# Altium integrated library Maxim Sensors.IntLib: 1171 symbols (part 10 of 61)
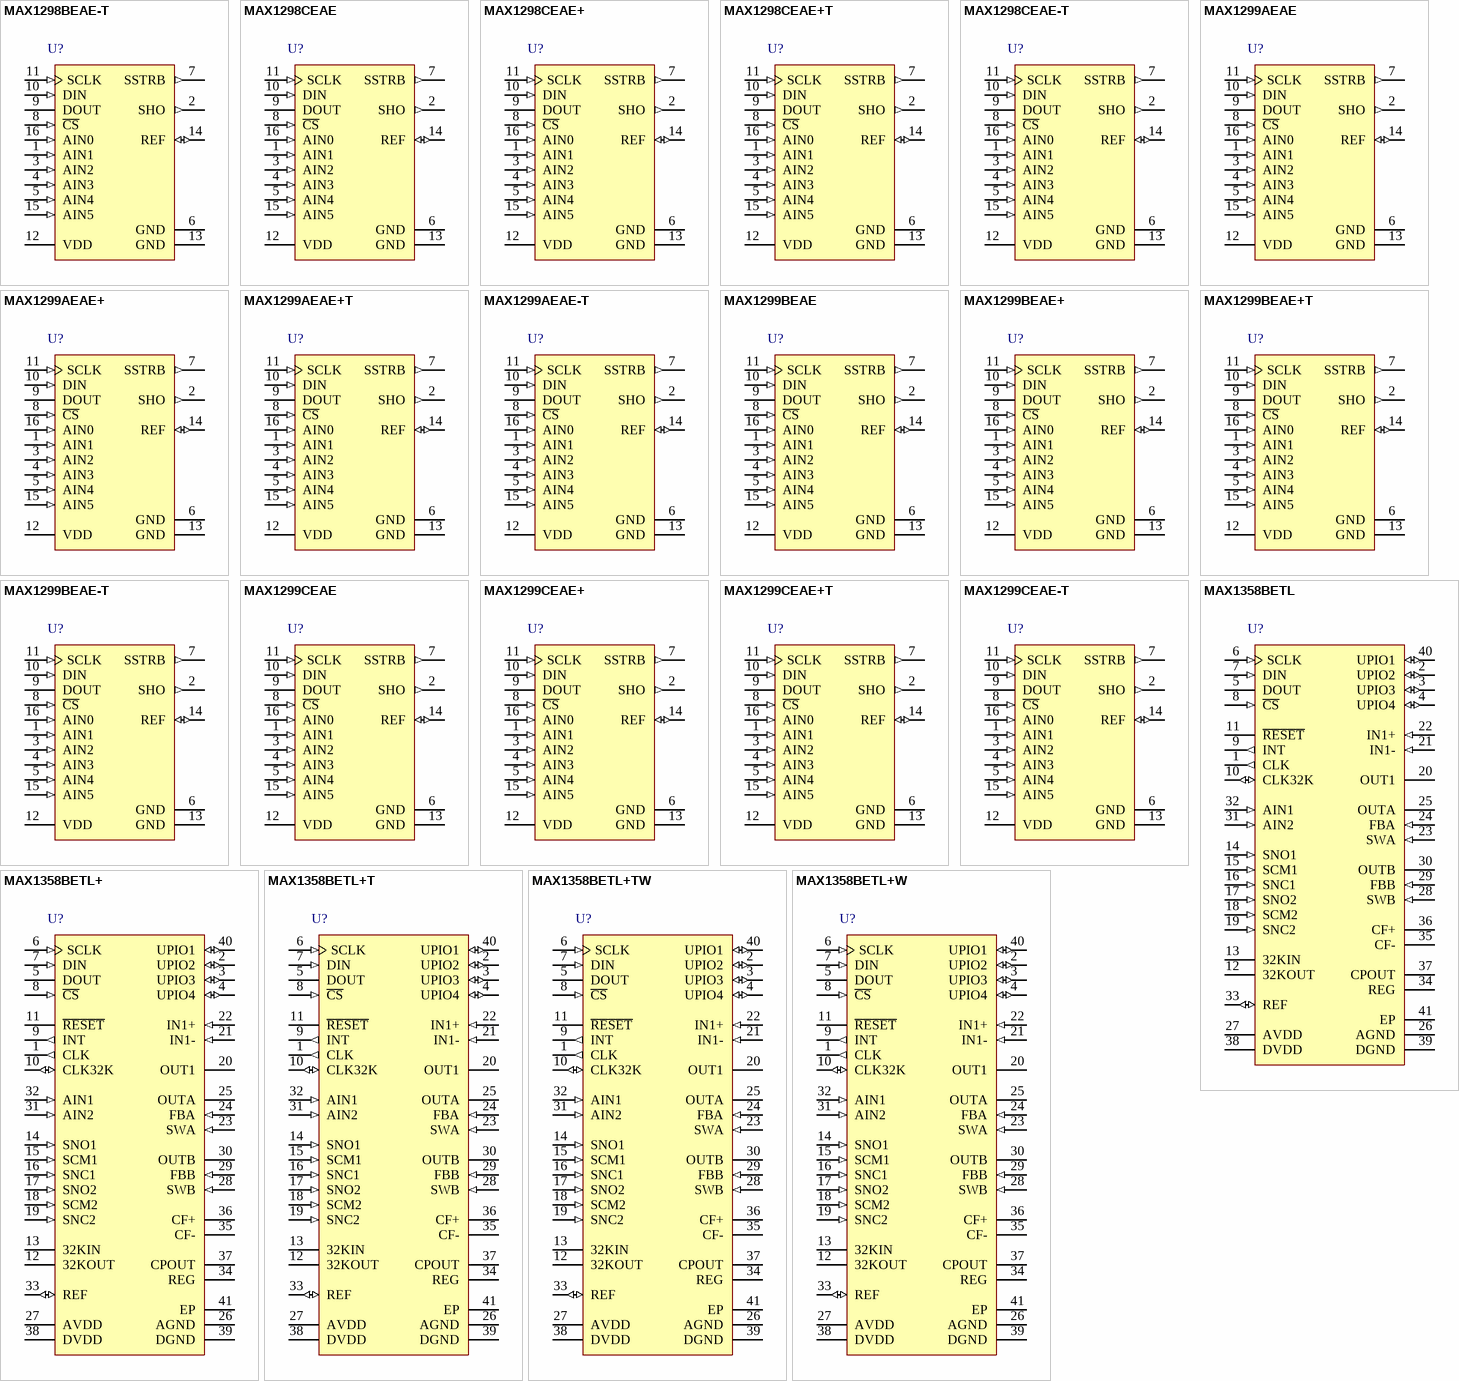
[diagram p42: symbols MAX1298BEAE-T to MAX1358BETL+W]

## MAX1299CEAE+
designator U?
Serial-Output Temperature Sensor with Five-Channel ADC, 12 Bits Temperature Resolution, -40 to 85 degC, 16-Pin SOP (A16+3), Pb-Free; Generic Part Number: MAX1299C; PartNumber: MAX1299CEAE+; Interface: 3-Wire/SPI; Parasite Pwr.: No; DatasheetVersion: Rev. 1; PackageVersion: Rev. C, 02/2010; PackageReference: A16+3; PackageDescription: 16-Pin Shrink Small-Outline Package, Body 5.29 x 6.2 mm, Pitch 0.65 mm; Supplier 1: Digi-Key; Supplier Part Number 1: MAX1299CEAE+-ND; Supplier 2: Mouser; Supplier Part Number 2: 700-MAX1299CEAE; Mounting Technology: Surface Mount; Code_JEDEC: MO-150; ComponentLink1Description: Manufacturer URL; ComponentLink1URL: http://www.maximintegrated.com/; ComponentLink2Description: Datasheet; ComponentLink2URL: http://datasheets.maximintegrated.com/en/ds/MAX1298-MAX1299C.pdf; ComponentLink3Description: Package Specification; ComponentLink3URL: http://pdfserv.maximintegrated.com/package_dwgs/21-0056.PDF
footprint MAXM-A16+3_N (SOP, 16-Leads, Body 6.2x5.29mm, Pitch 0.65mm, IPC Medium Density)
footprint MAXM-A16+3_L (SOP, 16-Leads, Body 6.2x5.29mm, Pitch 0.65mm, IPC High Density)
footprint MAXM-A16+3_M (SOP, 16-Leads, Body 6.2x5.29mm, Pitch 0.65mm, IPC Low Density)
pins: 1 AIN1 (in) "Analog Input 1. Negative differential input relative to AIN0 or positive differential input relative to AIN5 (Table 5). Connect to the cathode of external diode 1 for remote temperature sensing", 2 SHO (out) "Shield Output. Used to suppress leakage currents at the anodes of remote temperature sensors (see Remote Diode Shielding). May also be connected to the shield of twisted-pair input cables used for remote temperature (See Datasheet)", 3 AIN2 (in) "Analog Input 2. Positive differential input relative to AIN3 or positive differential input relative to AIN5 (Table 5). Connect to the anode of external diode 2 for remote temperature sensing.", 4 AIN3 (in) "Analog Input 3. Negative differential input relative to AIN2 or positive differential input relative to AIN5 (Table 5). Connect to the cathode of external diode 2 for remote temperature sensing.", 5 AIN4 (in) "Analog input 4. Positive differential input relative to AIN5 (Table 5).", 6 GND (power) "Ground. Connect to pin 13.", 7 SSTRB (out) "Serial Strobe Output. SSTRB goes low at the beginning of an A/D conversion, and it goes high when the conversion is finished.", 8 ~{CS} (in) "Active-Low Chip Select. Data will not be clocked into DIN unless C\S\ is low. When C\S\ is high, DOUT is at high impedance.", 9 DOUT (hiz) "Serial Data Output. DOUT transitions on the falling edge of SCLK.", 10 DIN (in) "Serial Data Input. DIN latches data on the rising edge of SCLK. 11 SCLK Serial Clock Input. Clocks data in and out of the serial interface.", 11 SCLK (in) "Serial Clock Input. Clocks data in and out of the serial interface.", 12 VDD (power) "Positive Supply Voltage. Bypass with a 0.1uF capacitor to GND (pin 13).", 13 GND (power) "Ground (star ground)", 14 REF (io) "Reference-Buffer Output/ADC Reference Input. Reference voltage for A/D conversion. Bypass to GND (pin 13) with a 0.1uF capacitor. Select reference mode by writing to configuration byte (Table 2).", 15 AIN5 (in) "Analog Input 5. Negative differential input relative to AIN0-AIN4 (Table 5).", 16 AIN0 (in) "Analog Input 0. Positive differential input relative to AIN1 or positive differential input relative to AIN5 (Table 5). Connect to the anode of external diode 1 for remote temperature sensing."

## MAX1299CEAE+T
designator U?
Serial-Output Temperature Sensor with Five-Channel ADC, 12 Bits Temperature Resolution, -40 to 85 degC, 16-Pin SOP (A16+3), Pb-Free, Tape and Reel; Generic Part Number: MAX1299C; PartNumber: MAX1299CEAE+T; Interface: 3-Wire/SPI; Parasite Pwr.: No; DatasheetVersion: Rev. 1; PackageVersion: Rev. C, 02/2010; PackageReference: A16+3; PackageDescription: 16-Pin Shrink Small-Outline Package, Body 5.29 x 6.2 mm, Pitch 0.65 mm; Supplier 1: Digi-Key; Supplier Part Number 1: MAX1299CEAE+T-ND; Supplier 2: Mouser; Supplier Part Number 2: 700-MAX1299CEAET; Packing: Tape and Reel; Mounting Technology: Surface Mount; Code_JEDEC: MO-150; ComponentLink1Description: Manufacturer URL; ComponentLink1URL: http://www.maximintegrated.com/; ComponentLink2Description: Datasheet; ComponentLink2URL: http://datasheets.maximintegrated.com/en/ds/MAX1298-MAX1299C.pdf; ComponentLink3Description: Package Specification; ComponentLink3URL: http://pdfserv.maximintegrated.com/package_dwgs/21-0056.PDF
footprint MAXM-A16+3_N (SOP, 16-Leads, Body 6.2x5.29mm, Pitch 0.65mm, IPC Medium Density)
footprint MAXM-A16+3_L (SOP, 16-Leads, Body 6.2x5.29mm, Pitch 0.65mm, IPC High Density)
footprint MAXM-A16+3_M (SOP, 16-Leads, Body 6.2x5.29mm, Pitch 0.65mm, IPC Low Density)
pins: 1 AIN1 (in) "Analog Input 1. Negative differential input relative to AIN0 or positive differential input relative to AIN5 (Table 5). Connect to the cathode of external diode 1 for remote temperature sensing", 2 SHO (out) "Shield Output. Used to suppress leakage currents at the anodes of remote temperature sensors (see Remote Diode Shielding). May also be connected to the shield of twisted-pair input cables used for remote temperature (See Datasheet)", 3 AIN2 (in) "Analog Input 2. Positive differential input relative to AIN3 or positive differential input relative to AIN5 (Table 5). Connect to the anode of external diode 2 for remote temperature sensing.", 4 AIN3 (in) "Analog Input 3. Negative differential input relative to AIN2 or positive differential input relative to AIN5 (Table 5). Connect to the cathode of external diode 2 for remote temperature sensing.", 5 AIN4 (in) "Analog input 4. Positive differential input relative to AIN5 (Table 5).", 6 GND (power) "Ground. Connect to pin 13.", 7 SSTRB (out) "Serial Strobe Output. SSTRB goes low at the beginning of an A/D conversion, and it goes high when the conversion is finished.", 8 ~{CS} (in) "Active-Low Chip Select. Data will not be clocked into DIN unless C\S\ is low. When C\S\ is high, DOUT is at high impedance.", 9 DOUT (hiz) "Serial Data Output. DOUT transitions on the falling edge of SCLK.", 10 DIN (in) "Serial Data Input. DIN latches data on the rising edge of SCLK. 11 SCLK Serial Clock Input. Clocks data in and out of the serial interface.", 11 SCLK (in) "Serial Clock Input. Clocks data in and out of the serial interface.", 12 VDD (power) "Positive Supply Voltage. Bypass with a 0.1uF capacitor to GND (pin 13).", 13 GND (power) "Ground (star ground)", 14 REF (io) "Reference-Buffer Output/ADC Reference Input. Reference voltage for A/D conversion. Bypass to GND (pin 13) with a 0.1uF capacitor. Select reference mode by writing to configuration byte (Table 2).", 15 AIN5 (in) "Analog Input 5. Negative differential input relative to AIN0-AIN4 (Table 5).", 16 AIN0 (in) "Analog Input 0. Positive differential input relative to AIN1 or positive differential input relative to AIN5 (Table 5). Connect to the anode of external diode 1 for remote temperature sensing."

## MAX1299CEAE-T
designator U?
Serial-Output Temperature Sensor with Five-Channel ADC, 12 Bits Temperature Resolution, -40 to 85 degC, 16-Pin SOP (A16-3), Tape and Reel; Generic Part Number: MAX1299C; PartNumber: MAX1299CEAE-T; Interface: 3-Wire/SPI; Parasite Pwr.: No; DatasheetVersion: Rev. 1; PackageVersion: Rev. C, 02/2010; PackageReference: A16-3; PackageDescription: 16-Pin Shrink Small-Outline Package, Body 5.29 x 6.2 mm, Pitch 0.65 mm; Supplier 1: Mouser; Supplier Part Number 1: N/A; Packing: Tape and Reel; Mounting Technology: Surface Mount; Code_JEDEC: MO-150; ComponentLink1Description: Manufacturer URL; ComponentLink1URL: http://www.maximintegrated.com/; ComponentLink2Description: Datasheet; ComponentLink2URL: http://datasheets.maximintegrated.com/en/ds/MAX1298-MAX1299C.pdf; ComponentLink3Description: Package Specification; ComponentLink3URL: http://pdfserv.maximintegrated.com/package_dwgs/21-0056.PDF
footprint MAXM-A16-3_N (SOP, 16-Leads, Body 6.2x5.29mm, Pitch 0.65mm, IPC Medium Density)
footprint MAXM-A16-3_L (SOP, 16-Leads, Body 6.2x5.29mm, Pitch 0.65mm, IPC High Density)
footprint MAXM-A16-3_M (SOP, 16-Leads, Body 6.2x5.29mm, Pitch 0.65mm, IPC Low Density)
pins: 1 AIN1 (in) "Analog Input 1. Negative differential input relative to AIN0 or positive differential input relative to AIN5 (Table 5). Connect to the cathode of external diode 1 for remote temperature sensing", 2 SHO (out) "Shield Output. Used to suppress leakage currents at the anodes of remote temperature sensors (see Remote Diode Shielding). May also be connected to the shield of twisted-pair input cables used for remote temperature (See Datasheet)", 3 AIN2 (in) "Analog Input 2. Positive differential input relative to AIN3 or positive differential input relative to AIN5 (Table 5). Connect to the anode of external diode 2 for remote temperature sensing.", 4 AIN3 (in) "Analog Input 3. Negative differential input relative to AIN2 or positive differential input relative to AIN5 (Table 5). Connect to the cathode of external diode 2 for remote temperature sensing.", 5 AIN4 (in) "Analog input 4. Positive differential input relative to AIN5 (Table 5).", 6 GND (power) "Ground. Connect to pin 13.", 7 SSTRB (out) "Serial Strobe Output. SSTRB goes low at the beginning of an A/D conversion, and it goes high when the conversion is finished.", 8 ~{CS} (in) "Active-Low Chip Select. Data will not be clocked into DIN unless C\S\ is low. When C\S\ is high, DOUT is at high impedance.", 9 DOUT (hiz) "Serial Data Output. DOUT transitions on the falling edge of SCLK.", 10 DIN (in) "Serial Data Input. DIN latches data on the rising edge of SCLK. 11 SCLK Serial Clock Input. Clocks data in and out of the serial interface.", 11 SCLK (in) "Serial Clock Input. Clocks data in and out of the serial interface.", 12 VDD (power) "Positive Supply Voltage. Bypass with a 0.1uF capacitor to GND (pin 13).", 13 GND (power) "Ground (star ground)", 14 REF (io) "Reference-Buffer Output/ADC Reference Input. Reference voltage for A/D conversion. Bypass to GND (pin 13) with a 0.1uF capacitor. Select reference mode by writing to configuration byte (Table 2).", 15 AIN5 (in) "Analog Input 5. Negative differential input relative to AIN0-AIN4 (Table 5).", 16 AIN0 (in) "Analog Input 0. Positive differential input relative to AIN1 or positive differential input relative to AIN5 (Table 5). Connect to the anode of external diode 1 for remote temperature sensing."

## MAX1358BETL
designator U?
16-Bit Data-Acquisition System with ADC, DACs, UPIOs, RTC, Voltage Monitors, and Temp Sensor, with 10-bit DAC, 16-bit ADC, -40 to 85 degC, 40-Pin QFN (T4066-5); Generic Part Number: MAX1358B; PartNumber: MAX1358BETL; Calibration Method: External microcontroller; DACs/ADCs: 2 10-bit DACs, 16-bit ADC; Interface: SPI; Output Type: Digital; DatasheetVersion: Rev. 1; PackageVersion: Rev. M, 03/2012; PackageReference: T4066-5; PackageDescription: 40-Pin Thin Quad Flatpack, No Leads, Body 6 x 6 mm, Pitch 0.5 mm; Supplier 1: Mouser; Supplier Part Number 1: N/A; Features: 4 UPIOs, Analog Switches ,Charge Pump ,Op Amp ,RTC ,Temp. Sensor ,Voltage Reference; Mounting Technology: Surface Mount; Code_JEDEC: MO-220; ComponentLink1Description: Manufacturer URL; ComponentLink1URL: http://www.maximintegrated.com/; ComponentLink2Description: Datasheet; ComponentLink2URL: http://datasheets.maximintegrated.com/en/ds/MAX1358B.pdf; ComponentLink3Description: Package Specification; ComponentLink3URL: http://pdfserv.maximintegrated.com/package_dwgs/21-0141.PDF
footprint MAXM-T4066-5_N (QFN, 40-Leads, Body 6x6mm, Pitch 0.5mm, Thermal Pad 4.1x4.1 mm, IPC Medium Density)
footprint MAXM-T4066-5_L (QFN, 40-Leads, Body 6x6mm, Pitch 0.5mm, Thermal Pad 4.1x4.1 mm, IPC High Density)
footprint MAXM-T4066-5_M (QFN, 40-Leads, Body 6x6mm, Pitch 0.5mm, Thermal Pad 4.1x4.1 mm, IPC Low Density)
pins: 1 CLK (out) "Clock Output. Default is 2.457MHz output clock for the uC.", 2 UPIO2 (io) "User-Programmable Input/Output 2. See the UPIO2_CTRL Register section for functionality.", 3 UPIO3 (io) "User-Programmable Input/Output 3. See the UPIO3_CTRL Register section for functionality.", 4 UPIO4 (io) "User-Programmable Input/Output 4. See the UPIO4_CTRL Register section for functionality.", 5 DOUT (hiz) "Serial-Data Output. Data is clocked out on SCLK’s falling edge. High impedance when C\S\ is high, when UPIO/SPI pass-through mode is enabled, DOUT mirrors the state of UPIO1.", 6 SCLK (in) "Serial-Clock Input. Clocks data in and out of the serial interface.", 7 DIN (in) "Serial-Data Input. Data is clocked in on SCLK’s rising edge.", 8 ~{CS} (in) "Active-Low Chip-Select Input. Data is not clocked into DIN unless C\S\ is low. When C\S\ is high, DOUT is high impedance. High impedance when C\S\ is high; when UPIO/SPI pass-through mode is enabled, DOUT  mirrors the state (See Datasheet)", 9 INT (out) "Programmable Active-High/Low Interrupt Output. ADC, UPIO wake-up, alarm, and voltage-monitor events.", 10 CLK32K (io) "32kHz Clock Input/Output. Outputs 32kHz clock for the uC. Can be programmed as an input by enabling the IO32E bit to accept an external 32kHz input clock. The RTC, PWM, and watchdog timer always use the internal 32kHz clock (See Datasheet)", 11 ~{RESET} (oc) "Active-Low, Open-Drain Reset Output. Remains low while DVDD is below the 1.8V voltage threshold and stays low for a timeout period (tDSLP) after DVDD rises above the 1.8V threshold. R\E\S\E\T\ also pulses low when the (See Datasheet)", 12 32KOUT "32kHz Crystal Output. Connect an external 32kHz watch crystal between 32KIN and 32KOUT.", 13 32KIN "32kHz Crystal Input. Connect an external 32kHz watch crystal between 32KIN and 32KOUT.", 14 SNO1 (in) "Analog Switch 1 Normally Open Terminal. Analog input to mux.", 15 SCM1 (in) "Analog Switch 1 Common Terminal. Analog input to mux.", 16 SNC1 (in) "Analog Switch 1 Normally Closed Terminal. Analog input to mux (open on POR).", 17 SNO2 (in) "Analog Switch 2 Normally Open Terminal. Analog input to mux.", 18 SCM2 (in) "Analog Switch 2 Common Terminal. Analog input to mux (open on POR).", 19 SNC2 (in) "Analog Switch 2 Normally Closed Terminal. Analog input to mux.", 20 OUT1 (hiz) "Amplifier 1 Output. Analog input to mux.", 21 IN1- (in) "Amplifier 1 Inverting Input. Analog input to mux.", 22 IN1+ (in) "Amplifier 1 Noninverting Input", 23 SWA (in) "DACA SPST Shunt Switch Input. Connects to OUTA through an SPST switch.", 24 FBA (in) "DACA Force-Sense Feedback Input. Analog input to mux.", 25 OUTA (hiz) "DACA Force-Sense Output. Analog input to mux.", 26 AGND (power) "Analog Ground", 27 AVDD (power) "Analog Supply Voltage. Also ADC reference voltage during AVDD measurement. Bypass to AGND with 10uF and 0.1uF capacitors in parallel as close to the pin as possible.", 28 SWB (in) "DACB SPST Shunt Switch Input. Connects to OUTB through an SPST switch.", 29 FBB (in) "DACB Force-Sense Feedback Input. Analog input to mux.", 30 OUTB (hiz) "Force-Sense DACB Ouput. Analog input to mux.", 31 AIN2 (in) "Analog Input 2. Analog input to mux. Inputs have internal programmable current source for external temperature measurement.", 32 AIN1 (in) "Analog Input 1. Analog input to mux. Inputs have internal programmable current source for external temperature measurement.", 33 REF (io) "Reference Input/Output. Output of the reference buffer amplifier or external reference input. Disabled at power-up to allow external reference. Reference voltage for ADC and DACs.", 34 REG (power) "Linear Voltage-Regulator Output. Charge-pump-doubler input voltage. Bypass REG with a 10uF capacitor to DGND for charge-pump regulation.", 35 CF- "Charge-Pump Flying Capacitor Terminals. Connect an external 10uF (typ) capacitor between CF+ and CF-.", 36 CF+ "Charge-Pump Flying Capacitor Terminals. Connect an external 10uF (typ) capacitor between CF+ and CF-.", 37 CPOUT (power) "Charge-Pump Output. Connect an external 10uF (typ) reservoir capacitor between CPOUT and DGND. There is a low threshold diode between DVDD and CPOUT. When the charge pump is disabled, CPOUT is pulled up within 300mV (typ) of (See Datasheet)", 38 DVDD (power) "Digital Supply Voltage. Bypass to DGND with 10uF and 0.1uF capacitors in parallel as close to the pin as possible.", 39 DGND (power) "Digital Ground. Also ground for cascaded linear voltage regulator and charge-pump doubler.", 40 UPIO1 (io) "User-Programmable Input/Output 1. See the UPIO1_CTRL Register for functionality.", 41 EP (power) "Exposed Pad. Leave unconnected or connect to AGND."

## MAX1358BETL+
designator U?
16-Bit Data-Acquisition System with ADC, DACs, UPIOs, RTC, Voltage Monitors, and Temp Sensor, with 10-bit DAC, 16-bit ADC, -40 to 85 degC, 40-Pin QFN (T4066+5), Pb-Free; Generic Part Number: MAX1358B; PartNumber: MAX1358BETL+; Calibration Method: External microcontroller; DACs/ADCs: 2 10-bit DACs, 16-bit ADC; Interface: SPI; Output Type: Digital; DatasheetVersion: Rev. 1; PackageVersion: Rev. M, 03/2012; PackageReference: T4066+5; PackageDescription: 40-Pin Thin Quad Flatpack, No Leads, Body 6 x 6 mm, Pitch 0.5 mm; Supplier 1: Digi-Key; Supplier Part Number 1: MAX1358BETL+-ND; Supplier 2: Farnell; Supplier Part Number 2: 1609602; Supplier 3: Mouser; Supplier Part Number 3: 700-MAX1358BETL; Features: 4 UPIOs, Analog Switches ,Charge Pump ,Op Amp ,RTC ,Temp. Sensor ,Voltage Reference; Mounting Technology: Surface Mount; Code_JEDEC: MO-220; ComponentLink1Description: Manufacturer URL; ComponentLink1URL: http://www.maximintegrated.com/; ComponentLink2Description: Datasheet; ComponentLink2URL: http://datasheets.maximintegrated.com/en/ds/MAX1358B.pdf; ComponentLink3Description: Package Specification; ComponentLink3URL: http://pdfserv.maximintegrated.com/package_dwgs/21-0141.PDF
footprint MAXM-T4066+5_N (QFN, 40-Leads, Body 6x6mm, Pitch 0.5mm, Thermal Pad 4.1x4.1mm, IPC Medium Density)
footprint MAXM-T4066+5_L (QFN, 40-Leads, Body 6x6mm, Pitch 0.5mm, Thermal Pad 4.1x4.1mm, IPC High Density)
footprint MAXM-T4066+5_M (QFN, 40-Leads, Body 6x6mm, Pitch 0.5mm, Thermal Pad 4.1x4.1mm, IPC Low Density)
pins: 1 CLK (out) "Clock Output. Default is 2.457MHz output clock for the uC.", 2 UPIO2 (io) "User-Programmable Input/Output 2. See the UPIO2_CTRL Register section for functionality.", 3 UPIO3 (io) "User-Programmable Input/Output 3. See the UPIO3_CTRL Register section for functionality.", 4 UPIO4 (io) "User-Programmable Input/Output 4. See the UPIO4_CTRL Register section for functionality.", 5 DOUT (hiz) "Serial-Data Output. Data is clocked out on SCLK’s falling edge. High impedance when C\S\ is high, when UPIO/SPI pass-through mode is enabled, DOUT mirrors the state of UPIO1.", 6 SCLK (in) "Serial-Clock Input. Clocks data in and out of the serial interface.", 7 DIN (in) "Serial-Data Input. Data is clocked in on SCLK’s rising edge.", 8 ~{CS} (in) "Active-Low Chip-Select Input. Data is not clocked into DIN unless C\S\ is low. When C\S\ is high, DOUT is high impedance. High impedance when C\S\ is high; when UPIO/SPI pass-through mode is enabled, DOUT  mirrors the state (See Datasheet)", 9 INT (out) "Programmable Active-High/Low Interrupt Output. ADC, UPIO wake-up, alarm, and voltage-monitor events.", 10 CLK32K (io) "32kHz Clock Input/Output. Outputs 32kHz clock for the uC. Can be programmed as an input by enabling the IO32E bit to accept an external 32kHz input clock. The RTC, PWM, and watchdog timer always use the internal 32kHz clock (See Datasheet)", 11 ~{RESET} (oc) "Active-Low, Open-Drain Reset Output. Remains low while DVDD is below the 1.8V voltage threshold and stays low for a timeout period (tDSLP) after DVDD rises above the 1.8V threshold. R\E\S\E\T\ also pulses low when the (See Datasheet)", 12 32KOUT "32kHz Crystal Output. Connect an external 32kHz watch crystal between 32KIN and 32KOUT.", 13 32KIN "32kHz Crystal Input. Connect an external 32kHz watch crystal between 32KIN and 32KOUT.", 14 SNO1 (in) "Analog Switch 1 Normally Open Terminal. Analog input to mux.", 15 SCM1 (in) "Analog Switch 1 Common Terminal. Analog input to mux.", 16 SNC1 (in) "Analog Switch 1 Normally Closed Terminal. Analog input to mux (open on POR).", 17 SNO2 (in) "Analog Switch 2 Normally Open Terminal. Analog input to mux.", 18 SCM2 (in) "Analog Switch 2 Common Terminal. Analog input to mux (open on POR).", 19 SNC2 (in) "Analog Switch 2 Normally Closed Terminal. Analog input to mux.", 20 OUT1 (hiz) "Amplifier 1 Output. Analog input to mux.", 21 IN1- (in) "Amplifier 1 Inverting Input. Analog input to mux.", 22 IN1+ (in) "Amplifier 1 Noninverting Input", 23 SWA (in) "DACA SPST Shunt Switch Input. Connects to OUTA through an SPST switch.", 24 FBA (in) "DACA Force-Sense Feedback Input. Analog input to mux.", 25 OUTA (hiz) "DACA Force-Sense Output. Analog input to mux.", 26 AGND (power) "Analog Ground", 27 AVDD (power) "Analog Supply Voltage. Also ADC reference voltage during AVDD measurement. Bypass to AGND with 10uF and 0.1uF capacitors in parallel as close to the pin as possible.", 28 SWB (in) "DACB SPST Shunt Switch Input. Connects to OUTB through an SPST switch.", 29 FBB (in) "DACB Force-Sense Feedback Input. Analog input to mux.", 30 OUTB (hiz) "Force-Sense DACB Ouput. Analog input to mux.", 31 AIN2 (in) "Analog Input 2. Analog input to mux. Inputs have internal programmable current source for external temperature measurement.", 32 AIN1 (in) "Analog Input 1. Analog input to mux. Inputs have internal programmable current source for external temperature measurement.", 33 REF (io) "Reference Input/Output. Output of the reference buffer amplifier or external reference input. Disabled at power-up to allow external reference. Reference voltage for ADC and DACs.", 34 REG (power) "Linear Voltage-Regulator Output. Charge-pump-doubler input voltage. Bypass REG with a 10uF capacitor to DGND for charge-pump regulation.", 35 CF- "Charge-Pump Flying Capacitor Terminals. Connect an external 10uF (typ) capacitor between CF+ and CF-.", 36 CF+ "Charge-Pump Flying Capacitor Terminals. Connect an external 10uF (typ) capacitor between CF+ and CF-.", 37 CPOUT (power) "Charge-Pump Output. Connect an external 10uF (typ) reservoir capacitor between CPOUT and DGND. There is a low threshold diode between DVDD and CPOUT. When the charge pump is disabled, CPOUT is pulled up within 300mV (typ) of (See Datasheet)", 38 DVDD (power) "Digital Supply Voltage. Bypass to DGND with 10uF and 0.1uF capacitors in parallel as close to the pin as possible.", 39 DGND (power) "Digital Ground. Also ground for cascaded linear voltage regulator and charge-pump doubler.", 40 UPIO1 (io) "User-Programmable Input/Output 1. See the UPIO1_CTRL Register for functionality.", 41 EP (power) "Exposed Pad. Leave unconnected or connect to AGND."

## MAX1358BETL+T
designator U?
16-Bit Data-Acquisition System with ADC, DACs, UPIOs, RTC, Voltage Monitors, and Temp Sensor, with 10-bit DAC, 16-bit ADC, -40 to 85 degC, 40-Pin QFN (T4066+5), Pb-Free, Tape and Reel; Generic Part Number: MAX1358B; PartNumber: MAX1358BETL+T; Calibration Method: External microcontroller; DACs/ADCs: 2 10-bit DACs, 16-bit ADC; Interface: SPI; Output Type: Digital; DatasheetVersion: Rev. 1; PackageVersion: Rev. M, 03/2012; PackageReference: T4066+5; PackageDescription: 40-Pin Thin Quad Flatpack, No Leads, Body 6 x 6 mm, Pitch 0.5 mm; Supplier 1: Digi-Key; Supplier Part Number 1: MAX1358BETL+T-ND; Supplier 2: Mouser; Supplier Part Number 2: 700-MAX1358BETLT; Features: 4 UPIOs, Analog Switches ,Charge Pump ,Op Amp ,RTC ,Temp. Sensor ,Voltage Reference; Packing: Tape and Reel; Mounting Technology: Surface Mount; Code_JEDEC: MO-220; ComponentLink1Description: Manufacturer URL; ComponentLink1URL: http://www.maximintegrated.com/; ComponentLink2Description: Datasheet; ComponentLink2URL: http://datasheets.maximintegrated.com/en/ds/MAX1358B.pdf; ComponentLink3Description: Package Specification; ComponentLink3URL: http://pdfserv.maximintegrated.com/package_dwgs/21-0141.PDF
footprint MAXM-T4066+5_N (QFN, 40-Leads, Body 6x6mm, Pitch 0.5mm, Thermal Pad 4.1x4.1mm, IPC Medium Density)
footprint MAXM-T4066+5_L (QFN, 40-Leads, Body 6x6mm, Pitch 0.5mm, Thermal Pad 4.1x4.1mm, IPC High Density)
footprint MAXM-T4066+5_M (QFN, 40-Leads, Body 6x6mm, Pitch 0.5mm, Thermal Pad 4.1x4.1mm, IPC Low Density)
pins: 1 CLK (out) "Clock Output. Default is 2.457MHz output clock for the uC.", 2 UPIO2 (io) "User-Programmable Input/Output 2. See the UPIO2_CTRL Register section for functionality.", 3 UPIO3 (io) "User-Programmable Input/Output 3. See the UPIO3_CTRL Register section for functionality.", 4 UPIO4 (io) "User-Programmable Input/Output 4. See the UPIO4_CTRL Register section for functionality.", 5 DOUT (hiz) "Serial-Data Output. Data is clocked out on SCLK’s falling edge. High impedance when C\S\ is high, when UPIO/SPI pass-through mode is enabled, DOUT mirrors the state of UPIO1.", 6 SCLK (in) "Serial-Clock Input. Clocks data in and out of the serial interface.", 7 DIN (in) "Serial-Data Input. Data is clocked in on SCLK’s rising edge.", 8 ~{CS} (in) "Active-Low Chip-Select Input. Data is not clocked into DIN unless C\S\ is low. When C\S\ is high, DOUT is high impedance. High impedance when C\S\ is high; when UPIO/SPI pass-through mode is enabled, DOUT  mirrors the state (See Datasheet)", 9 INT (out) "Programmable Active-High/Low Interrupt Output. ADC, UPIO wake-up, alarm, and voltage-monitor events.", 10 CLK32K (io) "32kHz Clock Input/Output. Outputs 32kHz clock for the uC. Can be programmed as an input by enabling the IO32E bit to accept an external 32kHz input clock. The RTC, PWM, and watchdog timer always use the internal 32kHz clock (See Datasheet)", 11 ~{RESET} (oc) "Active-Low, Open-Drain Reset Output. Remains low while DVDD is below the 1.8V voltage threshold and stays low for a timeout period (tDSLP) after DVDD rises above the 1.8V threshold. R\E\S\E\T\ also pulses low when the (See Datasheet)", 12 32KOUT "32kHz Crystal Output. Connect an external 32kHz watch crystal between 32KIN and 32KOUT.", 13 32KIN "32kHz Crystal Input. Connect an external 32kHz watch crystal between 32KIN and 32KOUT.", 14 SNO1 (in) "Analog Switch 1 Normally Open Terminal. Analog input to mux.", 15 SCM1 (in) "Analog Switch 1 Common Terminal. Analog input to mux.", 16 SNC1 (in) "Analog Switch 1 Normally Closed Terminal. Analog input to mux (open on POR).", 17 SNO2 (in) "Analog Switch 2 Normally Open Terminal. Analog input to mux.", 18 SCM2 (in) "Analog Switch 2 Common Terminal. Analog input to mux (open on POR).", 19 SNC2 (in) "Analog Switch 2 Normally Closed Terminal. Analog input to mux.", 20 OUT1 (hiz) "Amplifier 1 Output. Analog input to mux.", 21 IN1- (in) "Amplifier 1 Inverting Input. Analog input to mux.", 22 IN1+ (in) "Amplifier 1 Noninverting Input", 23 SWA (in) "DACA SPST Shunt Switch Input. Connects to OUTA through an SPST switch.", 24 FBA (in) "DACA Force-Sense Feedback Input. Analog input to mux.", 25 OUTA (hiz) "DACA Force-Sense Output. Analog input to mux.", 26 AGND (power) "Analog Ground", 27 AVDD (power) "Analog Supply Voltage. Also ADC reference voltage during AVDD measurement. Bypass to AGND with 10uF and 0.1uF capacitors in parallel as close to the pin as possible.", 28 SWB (in) "DACB SPST Shunt Switch Input. Connects to OUTB through an SPST switch.", 29 FBB (in) "DACB Force-Sense Feedback Input. Analog input to mux.", 30 OUTB (hiz) "Force-Sense DACB Ouput. Analog input to mux.", 31 AIN2 (in) "Analog Input 2. Analog input to mux. Inputs have internal programmable current source for external temperature measurement.", 32 AIN1 (in) "Analog Input 1. Analog input to mux. Inputs have internal programmable current source for external temperature measurement.", 33 REF (io) "Reference Input/Output. Output of the reference buffer amplifier or external reference input. Disabled at power-up to allow external reference. Reference voltage for ADC and DACs.", 34 REG (power) "Linear Voltage-Regulator Output. Charge-pump-doubler input voltage. Bypass REG with a 10uF capacitor to DGND for charge-pump regulation.", 35 CF- "Charge-Pump Flying Capacitor Terminals. Connect an external 10uF (typ) capacitor between CF+ and CF-.", 36 CF+ "Charge-Pump Flying Capacitor Terminals. Connect an external 10uF (typ) capacitor between CF+ and CF-.", 37 CPOUT (power) "Charge-Pump Output. Connect an external 10uF (typ) reservoir capacitor between CPOUT and DGND. There is a low threshold diode between DVDD and CPOUT. When the charge pump is disabled, CPOUT is pulled up within 300mV (typ) of (See Datasheet)", 38 DVDD (power) "Digital Supply Voltage. Bypass to DGND with 10uF and 0.1uF capacitors in parallel as close to the pin as possible.", 39 DGND (power) "Digital Ground. Also ground for cascaded linear voltage regulator and charge-pump doubler.", 40 UPIO1 (io) "User-Programmable Input/Output 1. See the UPIO1_CTRL Register for functionality.", 41 EP (power) "Exposed Pad. Leave unconnected or connect to AGND."

## MAX1358BETL+TW
designator U?
16-Bit Data-Acquisition System with ADC, DACs, UPIOs, RTC, Voltage Monitors, and Temp Sensor, with 10-bit DAC, 16-bit ADC, -40 to 85 degC, 40-Pin QFN (T4066+5), Pb-Free, Tape and Reel; Generic Part Number: MAX1358B; PartNumber: MAX1358BETL+TW; Calibration Method: External microcontroller; DACs/ADCs: 2 10-bit DACs, 16-bit ADC; Interface: SPI; Output Type: Digital; DatasheetVersion: Rev. 1; PackageVersion: Rev. M, 03/2012; PackageReference: T4066+5; PackageDescription: 40-Pin Thin Quad Flatpack, No Leads, Body 6 x 6 mm, Pitch 0.5 mm; Supplier 1: Digi-Key; Supplier Part Number 1: MAX1358BETL+TW-ND; Supplier 2: Mouser; Supplier Part Number 2: N/A; Features: 4 UPIOs, Analog Switches ,Charge Pump ,Op Amp ,RTC ,Temp. Sensor ,Voltage Reference; Packing: Tape and Reel; Mounting Technology: Surface Mount; Code_JEDEC: MO-220; ComponentLink1Description: Manufacturer URL; ComponentLink1URL: http://www.maximintegrated.com/; ComponentLink2Description: Datasheet; ComponentLink2URL: http://datasheets.maximintegrated.com/en/ds/MAX1358B.pdf; ComponentLink3Description: Package Specification; ComponentLink3URL: http://pdfserv.maximintegrated.com/package_dwgs/21-0141.PDF
footprint MAXM-T4066+5_N (QFN, 40-Leads, Body 6x6mm, Pitch 0.5mm, Thermal Pad 4.1x4.1mm, IPC Medium Density)
footprint MAXM-T4066+5_L (QFN, 40-Leads, Body 6x6mm, Pitch 0.5mm, Thermal Pad 4.1x4.1mm, IPC High Density)
footprint MAXM-T4066+5_M (QFN, 40-Leads, Body 6x6mm, Pitch 0.5mm, Thermal Pad 4.1x4.1mm, IPC Low Density)
pins: 1 CLK (out) "Clock Output. Default is 2.457MHz output clock for the uC.", 2 UPIO2 (io) "User-Programmable Input/Output 2. See the UPIO2_CTRL Register section for functionality.", 3 UPIO3 (io) "User-Programmable Input/Output 3. See the UPIO3_CTRL Register section for functionality.", 4 UPIO4 (io) "User-Programmable Input/Output 4. See the UPIO4_CTRL Register section for functionality.", 5 DOUT (hiz) "Serial-Data Output. Data is clocked out on SCLK’s falling edge. High impedance when C\S\ is high, when UPIO/SPI pass-through mode is enabled, DOUT mirrors the state of UPIO1.", 6 SCLK (in) "Serial-Clock Input. Clocks data in and out of the serial interface.", 7 DIN (in) "Serial-Data Input. Data is clocked in on SCLK’s rising edge.", 8 ~{CS} (in) "Active-Low Chip-Select Input. Data is not clocked into DIN unless C\S\ is low. When C\S\ is high, DOUT is high impedance. High impedance when C\S\ is high; when UPIO/SPI pass-through mode is enabled, DOUT  mirrors the state (See Datasheet)", 9 INT (out) "Programmable Active-High/Low Interrupt Output. ADC, UPIO wake-up, alarm, and voltage-monitor events.", 10 CLK32K (io) "32kHz Clock Input/Output. Outputs 32kHz clock for the uC. Can be programmed as an input by enabling the IO32E bit to accept an external 32kHz input clock. The RTC, PWM, and watchdog timer always use the internal 32kHz clock (See Datasheet)", 11 ~{RESET} (oc) "Active-Low, Open-Drain Reset Output. Remains low while DVDD is below the 1.8V voltage threshold and stays low for a timeout period (tDSLP) after DVDD rises above the 1.8V threshold. R\E\S\E\T\ also pulses low when the (See Datasheet)", 12 32KOUT "32kHz Crystal Output. Connect an external 32kHz watch crystal between 32KIN and 32KOUT.", 13 32KIN "32kHz Crystal Input. Connect an external 32kHz watch crystal between 32KIN and 32KOUT.", 14 SNO1 (in) "Analog Switch 1 Normally Open Terminal. Analog input to mux.", 15 SCM1 (in) "Analog Switch 1 Common Terminal. Analog input to mux.", 16 SNC1 (in) "Analog Switch 1 Normally Closed Terminal. Analog input to mux (open on POR).", 17 SNO2 (in) "Analog Switch 2 Normally Open Terminal. Analog input to mux.", 18 SCM2 (in) "Analog Switch 2 Common Terminal. Analog input to mux (open on POR).", 19 SNC2 (in) "Analog Switch 2 Normally Closed Terminal. Analog input to mux.", 20 OUT1 (hiz) "Amplifier 1 Output. Analog input to mux.", 21 IN1- (in) "Amplifier 1 Inverting Input. Analog input to mux.", 22 IN1+ (in) "Amplifier 1 Noninverting Input", 23 SWA (in) "DACA SPST Shunt Switch Input. Connects to OUTA through an SPST switch.", 24 FBA (in) "DACA Force-Sense Feedback Input. Analog input to mux.", 25 OUTA (hiz) "DACA Force-Sense Output. Analog input to mux.", 26 AGND (power) "Analog Ground", 27 AVDD (power) "Analog Supply Voltage. Also ADC reference voltage during AVDD measurement. Bypass to AGND with 10uF and 0.1uF capacitors in parallel as close to the pin as possible.", 28 SWB (in) "DACB SPST Shunt Switch Input. Connects to OUTB through an SPST switch.", 29 FBB (in) "DACB Force-Sense Feedback Input. Analog input to mux.", 30 OUTB (hiz) "Force-Sense DACB Ouput. Analog input to mux.", 31 AIN2 (in) "Analog Input 2. Analog input to mux. Inputs have internal programmable current source for external temperature measurement.", 32 AIN1 (in) "Analog Input 1. Analog input to mux. Inputs have internal programmable current source for external temperature measurement.", 33 REF (io) "Reference Input/Output. Output of the reference buffer amplifier or external reference input. Disabled at power-up to allow external reference. Reference voltage for ADC and DACs.", 34 REG (power) "Linear Voltage-Regulator Output. Charge-pump-doubler input voltage. Bypass REG with a 10uF capacitor to DGND for charge-pump regulation.", 35 CF- "Charge-Pump Flying Capacitor Terminals. Connect an external 10uF (typ) capacitor between CF+ and CF-.", 36 CF+ "Charge-Pump Flying Capacitor Terminals. Connect an external 10uF (typ) capacitor between CF+ and CF-.", 37 CPOUT (power) "Charge-Pump Output. Connect an external 10uF (typ) reservoir capacitor between CPOUT and DGND. There is a low threshold diode between DVDD and CPOUT. When the charge pump is disabled, CPOUT is pulled up within 300mV (typ) of (See Datasheet)", 38 DVDD (power) "Digital Supply Voltage. Bypass to DGND with 10uF and 0.1uF capacitors in parallel as close to the pin as possible.", 39 DGND (power) "Digital Ground. Also ground for cascaded linear voltage regulator and charge-pump doubler.", 40 UPIO1 (io) "User-Programmable Input/Output 1. See the UPIO1_CTRL Register for functionality.", 41 EP (power) "Exposed Pad. Leave unconnected or connect to AGND."

## MAX1358BETL+W
designator U?
16-Bit Data-Acquisition System with ADC, DACs, UPIOs, RTC, Voltage Monitors, and Temp Sensor, with 10-bit DAC, 16-bit ADC, -40 to 85 degC, 40-Pin QFN (T4066+5), Pb-Free; Generic Part Number: MAX1358B; PartNumber: MAX1358BETL+W; Calibration Method: External microcontroller; DACs/ADCs: 2 10-bit DACs, 16-bit ADC; Interface: SPI; Output Type: Digital; DatasheetVersion: Rev. 1; PackageVersion: Rev. M, 03/2012; PackageReference: T4066+5; PackageDescription: 40-Pin Thin Quad Flatpack, No Leads, Body 6 x 6 mm, Pitch 0.5 mm; Supplier 1: Digi-Key; Supplier Part Number 1: MAX1358BETL+W-ND; Supplier 2: Mouser; Supplier Part Number 2: N/A; Features: 4 UPIOs, Analog Switches ,Charge Pump ,Op Amp ,RTC ,Temp. Sensor ,Voltage Reference; Mounting Technology: Surface Mount; Code_JEDEC: MO-220; ComponentLink1Description: Manufacturer URL; ComponentLink1URL: http://www.maximintegrated.com/; ComponentLink2Description: Datasheet; ComponentLink2URL: http://datasheets.maximintegrated.com/en/ds/MAX1358B.pdf; ComponentLink3Description: Package Specification; ComponentLink3URL: http://pdfserv.maximintegrated.com/package_dwgs/21-0141.PDF
footprint MAXM-T4066+5_N (QFN, 40-Leads, Body 6x6mm, Pitch 0.5mm, Thermal Pad 4.1x4.1mm, IPC Medium Density)
footprint MAXM-T4066+5_L (QFN, 40-Leads, Body 6x6mm, Pitch 0.5mm, Thermal Pad 4.1x4.1mm, IPC High Density)
footprint MAXM-T4066+5_M (QFN, 40-Leads, Body 6x6mm, Pitch 0.5mm, Thermal Pad 4.1x4.1mm, IPC Low Density)
pins: 1 CLK (out) "Clock Output. Default is 2.457MHz output clock for the uC.", 2 UPIO2 (io) "User-Programmable Input/Output 2. See the UPIO2_CTRL Register section for functionality.", 3 UPIO3 (io) "User-Programmable Input/Output 3. See the UPIO3_CTRL Register section for functionality.", 4 UPIO4 (io) "User-Programmable Input/Output 4. See the UPIO4_CTRL Register section for functionality.", 5 DOUT (hiz) "Serial-Data Output. Data is clocked out on SCLK’s falling edge. High impedance when C\S\ is high, when UPIO/SPI pass-through mode is enabled, DOUT mirrors the state of UPIO1.", 6 SCLK (in) "Serial-Clock Input. Clocks data in and out of the serial interface.", 7 DIN (in) "Serial-Data Input. Data is clocked in on SCLK’s rising edge.", 8 ~{CS} (in) "Active-Low Chip-Select Input. Data is not clocked into DIN unless C\S\ is low. When C\S\ is high, DOUT is high impedance. High impedance when C\S\ is high; when UPIO/SPI pass-through mode is enabled, DOUT  mirrors the state (See Datasheet)", 9 INT (out) "Programmable Active-High/Low Interrupt Output. ADC, UPIO wake-up, alarm, and voltage-monitor events.", 10 CLK32K (io) "32kHz Clock Input/Output. Outputs 32kHz clock for the uC. Can be programmed as an input by enabling the IO32E bit to accept an external 32kHz input clock. The RTC, PWM, and watchdog timer always use the internal 32kHz clock (See Datasheet)", 11 ~{RESET} (oc) "Active-Low, Open-Drain Reset Output. Remains low while DVDD is below the 1.8V voltage threshold and stays low for a timeout period (tDSLP) after DVDD rises above the 1.8V threshold. R\E\S\E\T\ also pulses low when the (See Datasheet)", 12 32KOUT "32kHz Crystal Output. Connect an external 32kHz watch crystal between 32KIN and 32KOUT.", 13 32KIN "32kHz Crystal Input. Connect an external 32kHz watch crystal between 32KIN and 32KOUT.", 14 SNO1 (in) "Analog Switch 1 Normally Open Terminal. Analog input to mux.", 15 SCM1 (in) "Analog Switch 1 Common Terminal. Analog input to mux.", 16 SNC1 (in) "Analog Switch 1 Normally Closed Terminal. Analog input to mux (open on POR).", 17 SNO2 (in) "Analog Switch 2 Normally Open Terminal. Analog input to mux.", 18 SCM2 (in) "Analog Switch 2 Common Terminal. Analog input to mux (open on POR).", 19 SNC2 (in) "Analog Switch 2 Normally Closed Terminal. Analog input to mux.", 20 OUT1 (hiz) "Amplifier 1 Output. Analog input to mux.", 21 IN1- (in) "Amplifier 1 Inverting Input. Analog input to mux.", 22 IN1+ (in) "Amplifier 1 Noninverting Input", 23 SWA (in) "DACA SPST Shunt Switch Input. Connects to OUTA through an SPST switch.", 24 FBA (in) "DACA Force-Sense Feedback Input. Analog input to mux.", 25 OUTA (hiz) "DACA Force-Sense Output. Analog input to mux.", 26 AGND (power) "Analog Ground", 27 AVDD (power) "Analog Supply Voltage. Also ADC reference voltage during AVDD measurement. Bypass to AGND with 10uF and 0.1uF capacitors in parallel as close to the pin as possible.", 28 SWB (in) "DACB SPST Shunt Switch Input. Connects to OUTB through an SPST switch.", 29 FBB (in) "DACB Force-Sense Feedback Input. Analog input to mux.", 30 OUTB (hiz) "Force-Sense DACB Ouput. Analog input to mux.", 31 AIN2 (in) "Analog Input 2. Analog input to mux. Inputs have internal programmable current source for external temperature measurement.", 32 AIN1 (in) "Analog Input 1. Analog input to mux. Inputs have internal programmable current source for external temperature measurement.", 33 REF (io) "Reference Input/Output. Output of the reference buffer amplifier or external reference input. Disabled at power-up to allow external reference. Reference voltage for ADC and DACs.", 34 REG (power) "Linear Voltage-Regulator Output. Charge-pump-doubler input voltage. Bypass REG with a 10uF capacitor to DGND for charge-pump regulation.", 35 CF- "Charge-Pump Flying Capacitor Terminals. Connect an external 10uF (typ) capacitor between CF+ and CF-.", 36 CF+ "Charge-Pump Flying Capacitor Terminals. Connect an external 10uF (typ) capacitor between CF+ and CF-.", 37 CPOUT (power) "Charge-Pump Output. Connect an external 10uF (typ) reservoir capacitor between CPOUT and DGND. There is a low threshold diode between DVDD and CPOUT. When the charge pump is disabled, CPOUT is pulled up within 300mV (typ) of (See Datasheet)", 38 DVDD (power) "Digital Supply Voltage. Bypass to DGND with 10uF and 0.1uF capacitors in parallel as close to the pin as possible.", 39 DGND (power) "Digital Ground. Also ground for cascaded linear voltage regulator and charge-pump doubler.", 40 UPIO1 (io) "User-Programmable Input/Output 1. See the UPIO1_CTRL Register for functionality.", 41 EP (power) "Exposed Pad. Leave unconnected or connect to AGND."

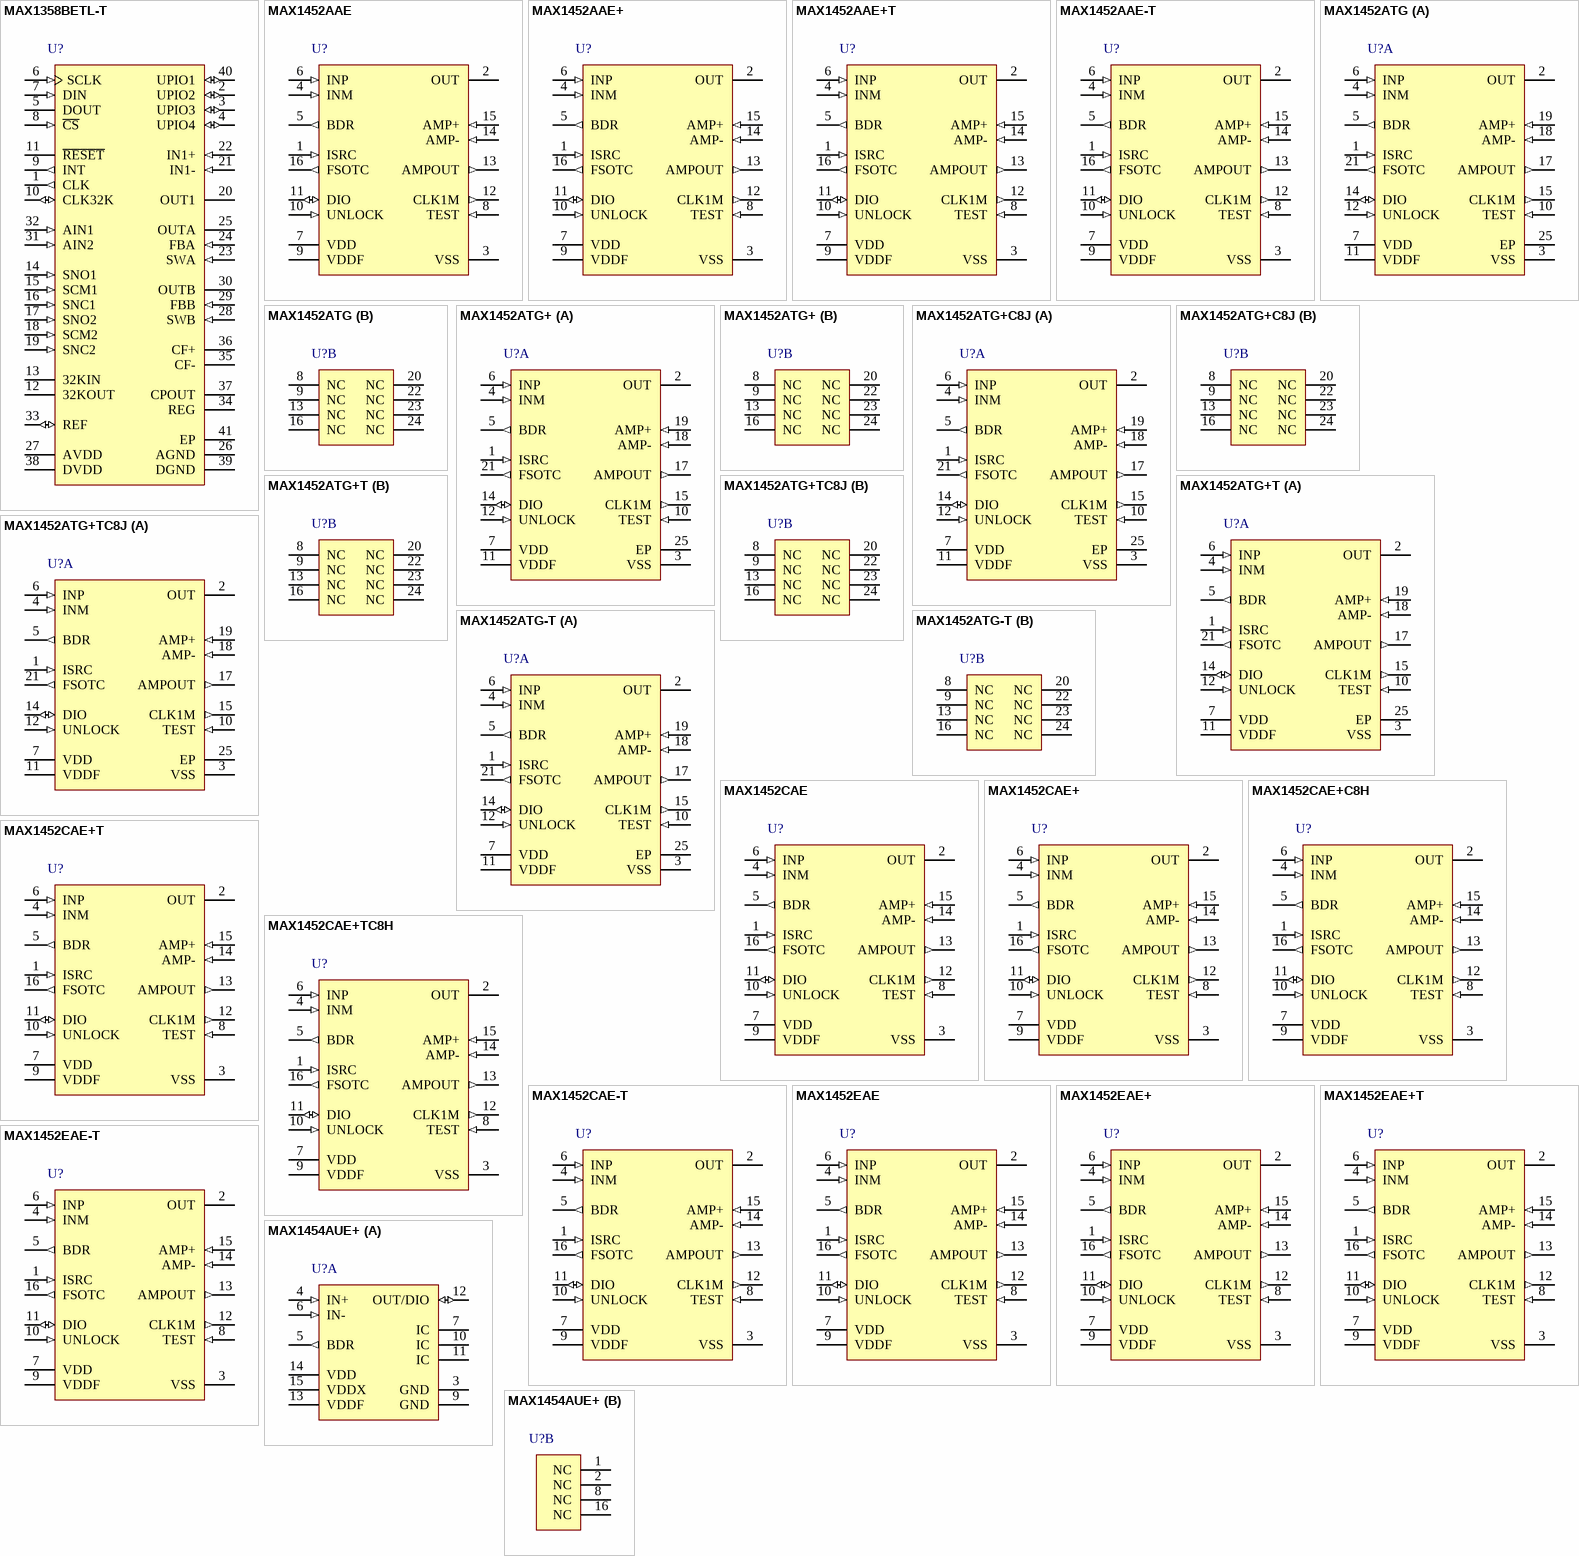
[diagram p6: symbols MAX1358BETL-T to MAX1454AUE+]

## MAX1358BETL-T
designator U?
16-Bit Data-Acquisition System with ADC, DACs, UPIOs, RTC, Voltage Monitors, and Temp Sensor, with 10-bit DAC, 16-bit ADC, -40 to 85 degC, 40-Pin QFN (T4066-5), Tape and Reel; Generic Part Number: MAX1358B; PartNumber: MAX1358BETL-T; Calibration Method: External microcontroller; DACs/ADCs: 2 10-bit DACs, 16-bit ADC; Interface: SPI; Output Type: Digital; DatasheetVersion: Rev. 1; PackageVersion: Rev. M, 03/2012; PackageReference: T4066-5; PackageDescription: 40-Pin Thin Quad Flatpack, No Leads, Body 6 x 6 mm, Pitch 0.5 mm; Supplier 1: Mouser; Supplier Part Number 1: N/A; Features: 4 UPIOs, Analog Switches ,Charge Pump ,Op Amp ,RTC ,Temp. Sensor ,Voltage Reference; Packing: Tape and Reel; Mounting Technology: Surface Mount; Code_JEDEC: MO-220; ComponentLink1Description: Manufacturer URL; ComponentLink1URL: http://www.maximintegrated.com/; ComponentLink2Description: Datasheet; ComponentLink2URL: http://datasheets.maximintegrated.com/en/ds/MAX1358B.pdf; ComponentLink3Description: Package Specification; ComponentLink3URL: http://pdfserv.maximintegrated.com/package_dwgs/21-0141.PDF
footprint MAXM-T4066-5_N (QFN, 40-Leads, Body 6x6mm, Pitch 0.5mm, Thermal Pad 4.1x4.1 mm, IPC Medium Density)
footprint MAXM-T4066-5_L (QFN, 40-Leads, Body 6x6mm, Pitch 0.5mm, Thermal Pad 4.1x4.1 mm, IPC High Density)
footprint MAXM-T4066-5_M (QFN, 40-Leads, Body 6x6mm, Pitch 0.5mm, Thermal Pad 4.1x4.1 mm, IPC Low Density)
pins: 1 CLK (out) "Clock Output. Default is 2.457MHz output clock for the uC.", 2 UPIO2 (io) "User-Programmable Input/Output 2. See the UPIO2_CTRL Register section for functionality.", 3 UPIO3 (io) "User-Programmable Input/Output 3. See the UPIO3_CTRL Register section for functionality.", 4 UPIO4 (io) "User-Programmable Input/Output 4. See the UPIO4_CTRL Register section for functionality.", 5 DOUT (hiz) "Serial-Data Output. Data is clocked out on SCLK’s falling edge. High impedance when C\S\ is high, when UPIO/SPI pass-through mode is enabled, DOUT mirrors the state of UPIO1.", 6 SCLK (in) "Serial-Clock Input. Clocks data in and out of the serial interface.", 7 DIN (in) "Serial-Data Input. Data is clocked in on SCLK’s rising edge.", 8 ~{CS} (in) "Active-Low Chip-Select Input. Data is not clocked into DIN unless C\S\ is low. When C\S\ is high, DOUT is high impedance. High impedance when C\S\ is high; when UPIO/SPI pass-through mode is enabled, DOUT  mirrors the state (See Datasheet)", 9 INT (out) "Programmable Active-High/Low Interrupt Output. ADC, UPIO wake-up, alarm, and voltage-monitor events.", 10 CLK32K (io) "32kHz Clock Input/Output. Outputs 32kHz clock for the uC. Can be programmed as an input by enabling the IO32E bit to accept an external 32kHz input clock. The RTC, PWM, and watchdog timer always use the internal 32kHz clock (See Datasheet)", 11 ~{RESET} (oc) "Active-Low, Open-Drain Reset Output. Remains low while DVDD is below the 1.8V voltage threshold and stays low for a timeout period (tDSLP) after DVDD rises above the 1.8V threshold. R\E\S\E\T\ also pulses low when the (See Datasheet)", 12 32KOUT "32kHz Crystal Output. Connect an external 32kHz watch crystal between 32KIN and 32KOUT.", 13 32KIN "32kHz Crystal Input. Connect an external 32kHz watch crystal between 32KIN and 32KOUT.", 14 SNO1 (in) "Analog Switch 1 Normally Open Terminal. Analog input to mux.", 15 SCM1 (in) "Analog Switch 1 Common Terminal. Analog input to mux.", 16 SNC1 (in) "Analog Switch 1 Normally Closed Terminal. Analog input to mux (open on POR).", 17 SNO2 (in) "Analog Switch 2 Normally Open Terminal. Analog input to mux.", 18 SCM2 (in) "Analog Switch 2 Common Terminal. Analog input to mux (open on POR).", 19 SNC2 (in) "Analog Switch 2 Normally Closed Terminal. Analog input to mux.", 20 OUT1 (hiz) "Amplifier 1 Output. Analog input to mux.", 21 IN1- (in) "Amplifier 1 Inverting Input. Analog input to mux.", 22 IN1+ (in) "Amplifier 1 Noninverting Input", 23 SWA (in) "DACA SPST Shunt Switch Input. Connects to OUTA through an SPST switch.", 24 FBA (in) "DACA Force-Sense Feedback Input. Analog input to mux.", 25 OUTA (hiz) "DACA Force-Sense Output. Analog input to mux.", 26 AGND (power) "Analog Ground", 27 AVDD (power) "Analog Supply Voltage. Also ADC reference voltage during AVDD measurement. Bypass to AGND with 10uF and 0.1uF capacitors in parallel as close to the pin as possible.", 28 SWB (in) "DACB SPST Shunt Switch Input. Connects to OUTB through an SPST switch.", 29 FBB (in) "DACB Force-Sense Feedback Input. Analog input to mux.", 30 OUTB (hiz) "Force-Sense DACB Ouput. Analog input to mux.", 31 AIN2 (in) "Analog Input 2. Analog input to mux. Inputs have internal programmable current source for external temperature measurement.", 32 AIN1 (in) "Analog Input 1. Analog input to mux. Inputs have internal programmable current source for external temperature measurement.", 33 REF (io) "Reference Input/Output. Output of the reference buffer amplifier or external reference input. Disabled at power-up to allow external reference. Reference voltage for ADC and DACs.", 34 REG (power) "Linear Voltage-Regulator Output. Charge-pump-doubler input voltage. Bypass REG with a 10uF capacitor to DGND for charge-pump regulation.", 35 CF- "Charge-Pump Flying Capacitor Terminals. Connect an external 10uF (typ) capacitor between CF+ and CF-.", 36 CF+ "Charge-Pump Flying Capacitor Terminals. Connect an external 10uF (typ) capacitor between CF+ and CF-.", 37 CPOUT (power) "Charge-Pump Output. Connect an external 10uF (typ) reservoir capacitor between CPOUT and DGND. There is a low threshold diode between DVDD and CPOUT. When the charge pump is disabled, CPOUT is pulled up within 300mV (typ) of (See Datasheet)", 38 DVDD (power) "Digital Supply Voltage. Bypass to DGND with 10uF and 0.1uF capacitors in parallel as close to the pin as possible.", 39 DGND (power) "Digital Ground. Also ground for cascaded linear voltage regulator and charge-pump doubler.", 40 UPIO1 (io) "User-Programmable Input/Output 1. See the UPIO1_CTRL Register for functionality.", 41 EP (power) "Exposed Pad. Leave unconnected or connect to AGND."

## MAX1452AAE
designator U?
Low Cost Precision Sensor Signal Conditioner with 16-bit DAC, -40 to 125 degC, 24-Pin SOP (A16-2); Generic Part Number: MAX1452; PartNumber: MAX1452AAE; Calibration Method: Internal DACs updated from internal EEPROM; Industry Qualified: Automotive - AECQ100, Automotive - General; Output Type: Analog; DatasheetVersion: Rev. 2; PackageVersion: Rev. C, 02/2010; PackageReference: A16-2; PackageDescription: 16-Pin Shrink Small-Outline Package, Body 5.29 x 6.2 mm, Pitch 0.65 mm; Supplier 1: Mouser; Supplier Part Number 1: N/A; DACs/ADCs: 16-bit DAC; Features: Aux. Op Amp, No External Trim Req'd ,Temp. Sensor; Mounting Technology: Surface Mount; ComponentLink1Description: Manufacturer URL; ComponentLink1URL: http://www.maximintegrated.com/; ComponentLink2Description: Datasheet; ComponentLink2URL: http://datasheets.maximintegrated.com/en/ds/MAX1452.pdf; ComponentLink3Description: Package Specification; ComponentLink3URL: http://pdfserv.maximintegrated.com/package_dwgs/21-0056.PDF
footprint MAXM-A16-2_N (SOP, 16-Leads, Body 6.2x5.29mm, Pitch 0.65mm, IPC Medium Density)
footprint MAXM-A16-2_L (SOP, 16-Leads, Body 6.2x5.29mm, Pitch 0.65mm, IPC High Density)
footprint MAXM-A16-2_M (SOP, 16-Leads, Body 6.2x5.29mm, Pitch 0.65mm, IPC Low Density)
pins: 1 ISRC (in) "Bridge Drive Current Mode Setting", 2 OUT (hiz) "High ESD and Scan Path Output Signal. May need a 0.1uF capacitor, in noisy environments. OUT may be parallel connected to DIO.", 3 VSS (power) "Negative Supply Voltage", 4 INM (in) "Bridge Negative Input. Can be swapped to INP by configuration register.", 5 BDR (out) "Bridge Drive", 6 INP (in) "Bridge Positive Input. Can be swapped to INM by configuration register.", 7 VDD (power) "Positive Supply Voltage. Connect a 0.1uF capacitor from VDD to VSS.", 8 TEST (in) "Internally Connected. Connect to VSS.", 9 VDDF (power) "Positive Supply Voltage for EEPROM. Connect a 1uF capacitor from VDDF to VSS. Connect VDDF to VDD or for improved noise performance connect a 30ohm resistor to VDD.", 10 UNLOCK (in) "Secure-Lock Disable. Allows communication to the device.", 11 DIO (io) "Digital Input Output. DIO allows communication with the device.", 12 CLK1M (out) "1MHz Clock Output. The output can be controlled by a configuration bit.", 13 AMPOUT (out) "Uncommitted Amplifier Output", 14 AMP- (in) "Uncommitted Amplifier Negative Input", 15 AMP+ (in) "Uncommitted Amplifier Positive Input", 16 FSOTC (out) "Full Span TC Buffered Output"